# Altium footprint library DHT22.PcbLib: 2 footprints
Each footprint in its own frame and in the unit in brackets; x right, y up, seen from the top. Pads: shape width x height; smd on the part's side, far side on the other; paste and mask are expansions set on the pad; w line width, h text height; cw(c..) or ccw(c..) is an arc to the next point about the centre after c.
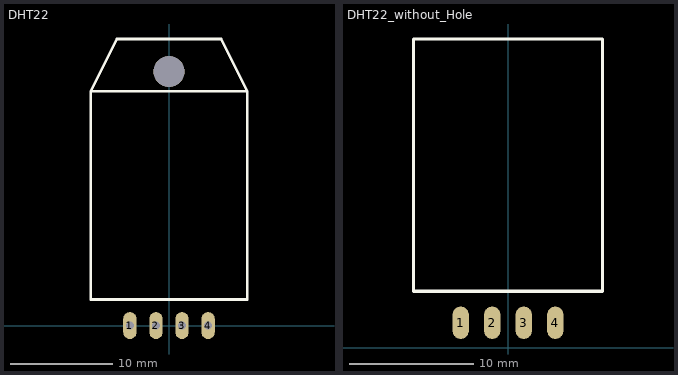
[diagram p0: the footprints below, top view; thin cyan lines are the x and y axes]

## DHT22 [mm]
pads (5):
  oval 1.308x2.616 hole 0.8: 1(-3.81,0) 2(-1.27,0) 3(1.27,0) 4(3.81,0)
  round 3 hole 3 unplated: ""(0,24.765)
Top Overlay:
  lines w0.254: -7.62,22.86 -5.08,27.94 5.08,27.94 7.62,22.86 ; -7.62,22.86 7.62,22.86 ; -7.62,22.86 -7.62,2.54 0,2.54 7.62,2.54 7.62,22.86
3D body "DHT22-3DModel.STEP": height 7.7, standoff -4.5, extent -7.607,0.177 7.493,28.067

## DHT22_without_Hole [mil]
pads (4):
  oval 51.5x102.99 smd: 1(-150,80) 2(-50,80) 3(50,80) 4(150,80)
Top Overlay:
  lines w10: -300,180 0,180 300,180 300,980 -300,980 -300,180
3D body "DHT22-3DModel.STEP": height 479.15, standoff -1.17, extent -299.49,86.97 295,1185